# Altium schematic symbol library STM32F411CEU6.SchLib: 11 symbols
Pins are listed as number, name and electrical type; pins without a type are passive.

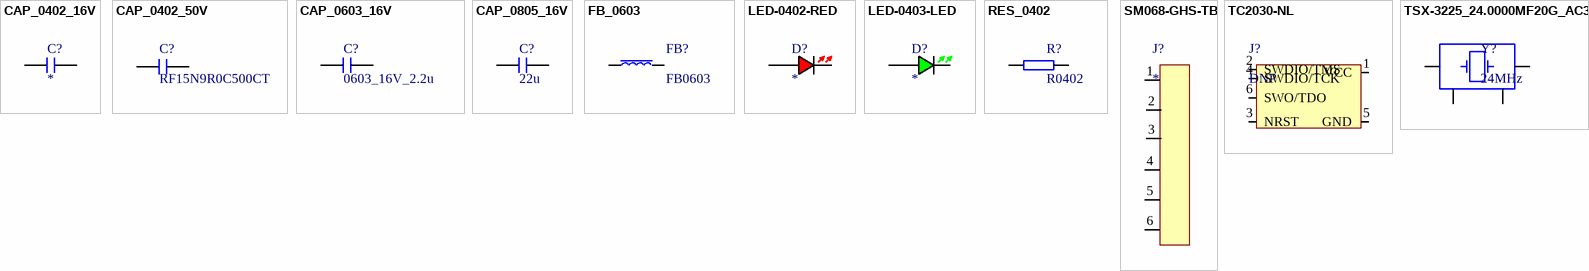
[diagram p0: symbols CAP_0402_16V to TSX-3225_24.0000MF20G_AC3]

## CAP_0402_16V
designator C?
pins: 1, 2

## CAP_0402_50V
designator C?, comment RF15N9R0C500CT
0402 50V 10PF
pins: 1, 2

## CAP_0603_16V
designator C?, comment 0603_16V_2.2u
pins: 1, 2

## CAP_0805_16V
designator C?, comment 22u
CAP_SMD 0805 16V
pins: 1, 2

## FB_0603
designator FB?, comment FB0603
Ferrite Beead SMD 0603
pins: 1, 2

## LED-0402-RED
designator D?
LED-0402 red smd
pins: A, K

## LED-0403-LED
designator D?
LED-0402 green smd
pins: A, K

## RES_0402
designator R?, comment R0402
pins: 1, 2

## SM068-GHS-TB
designator J?
SM068-GHS-TB
pins: 1, 2, 3, 4, 5, 6

## TC2030-NL
designator J?, comment DNP
TC2030-NL smd
pins: 1 VCC, 2 SWDIO/TMS, 3 NRST, 4 SWDIO/TCK, 5 GND, 6 SWO/TDO

## TSX-3225_24.0000MF20G_AC3
designator Y?, comment 24MHz
pins: 1, 2, 3, 4